# Altium integrated library Maxim Converter Analog to Digital.IntLib: 88 symbols (part 1 of 3)
Pins are listed as number, name and electrical type; pins without a type are passive.

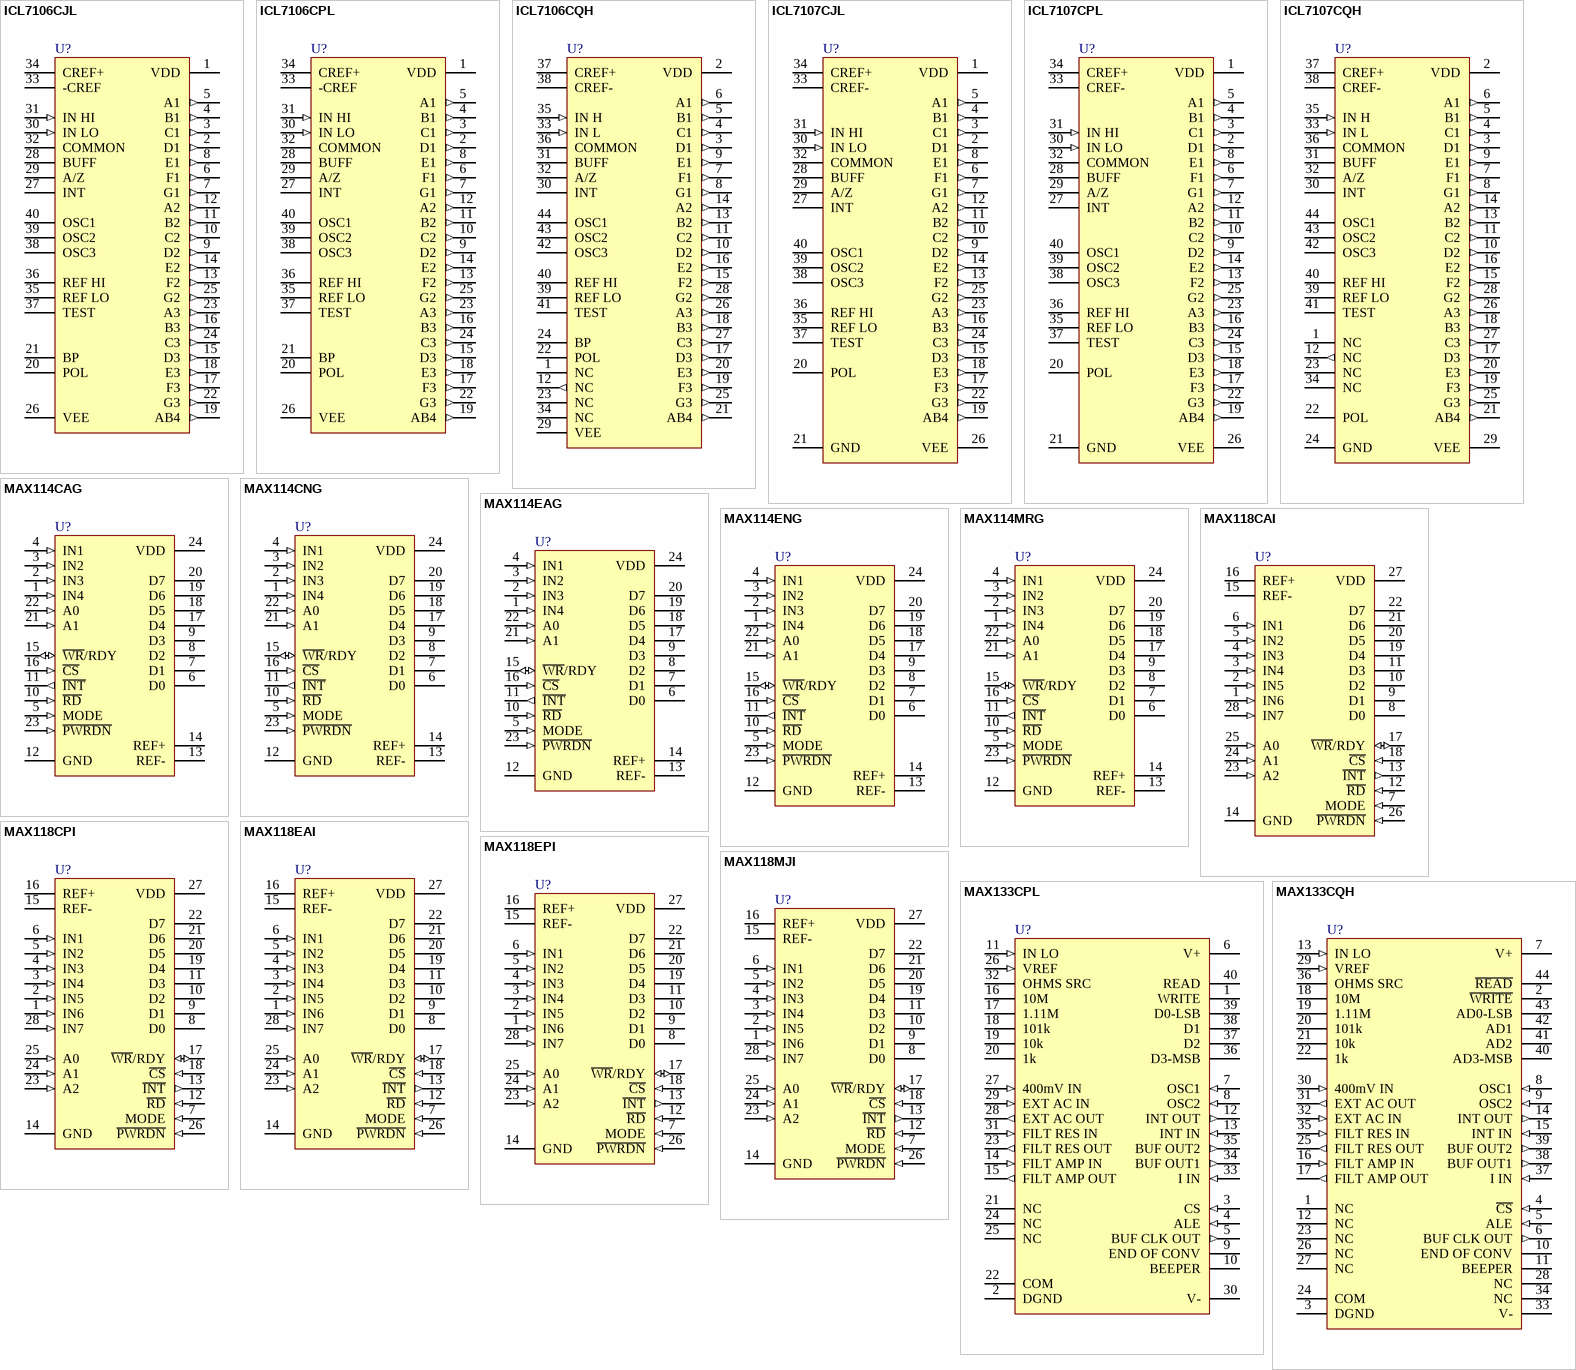
[diagram p0: symbols ICL7106CJL to MAX133CQH]

## ICL7106CJL
designator U?
3½ Digit A/D Converter; Published: 16-Jan-2001; LatestRevisionDate: 29-May-2009; LatestRevisionNote: Component Body Added.; DatasheetVersion: 1987; PackageReference: JL40A; Publisher: Altium Limited; PackageDescription: DIP, 40-Pin, Row Spacing 15.24 mm, Pitch 2.54 mm; Code_JEDEC: MS-011-AC; ComponentLink1Description: Manufacturer Link; ComponentLink1URL: http://www.maxim-ic.com/; ComponentLink2Description: Datasheet; ComponentLink2URL: http://pdfserv.maxim-ic.com/en/ds/ICL7106-ICL7107.pdf
footprint JL40A (DIP, 40-Leads, Row Spacing 15.24mm, Pitch 2.54mm, Body 52.28x14.35mm)
3D model JL40A (DIP, 40-Pin, Row Spacing 15.24 mm, Pitch 2.54 mm)
pins: 1 VDD (power), 2 D1 (out), 3 C1 (out), 4 B1 (out), 5 A1 (out), 6 F1 (out), 7 G1 (out), 8 E1 (out), 9 D2 (out), 10 C2 (out), 11 B2 (out), 12 A2 (out), 13 F2 (out), 14 E2 (out), 15 D3 (out), 16 B3 (out), 17 F3 (out), 18 E3 (out), 19 AB4 (out), 20 POL, 21 BP, 22 G3 (out), 23 A3 (out), 24 C3 (out), 25 G2 (out), 26 VEE (power), 27 INT, 28 BUFF, 29 A/Z, 30 IN LO (in), 31 IN HI (in), 32 COMMON, 33 -CREF, 34 CREF+, 35 REF LO, 36 REF HI, 37 TEST, 38 OSC3, 39 OSC2, 40 OSC1

## ICL7106CPL
designator U?
3½ Digit A/D Converter; Published: 16-Jan-2001; LatestRevisionDate: 29-May-2009; LatestRevisionNote: Component Body Added.; DatasheetVersion: 1987; PackageVersion: RevA, 21-0044; PackageReference: PL40; Publisher: Altium Limited; PackageDescription: DIP, 40-Pin, Row Spacing 15.24 mm, Pitch 2.54 mm; ComponentLink1Description: Manufacturer Link; ComponentLink1URL: http://www.maxim-ic.com/; ComponentLink2Description: Datasheet; ComponentLink2URL: http://pdfserv.maxim-ic.com/en/ds/ICL7106-ICL7107.pdf
footprint PL40 (DIP, 40-Leads, Row Spacing 15.24mm, Pitch 2.54mm, Body 52.08x13.98mm)
3D model PL40 (DIP, 40-Pin, Row Spacing 15.24 mm, Pitch 2.54 mm)
pins: 1 VDD (power), 2 D1 (out), 3 C1 (out), 4 B1 (out), 5 A1 (out), 6 F1 (out), 7 G1 (out), 8 E1 (out), 9 D2 (out), 10 C2 (out), 11 B2 (out), 12 A2 (out), 13 F2 (out), 14 E2 (out), 15 D3 (out), 16 B3 (out), 17 F3 (out), 18 E3 (out), 19 AB4 (out), 20 POL, 21 BP, 22 G3 (out), 23 A3 (out), 24 C3 (out), 25 G2 (out), 26 VEE (power), 27 INT, 28 BUFF, 29 A/Z, 30 IN LO (in), 31 IN HI (in), 32 COMMON, 33 -CREF, 34 CREF+, 35 REF LO, 36 REF HI, 37 TEST, 38 OSC3, 39 OSC2, 40 OSC1

## ICL7106CQH
designator U?
3½ Digit A/D Converter; Published: 16-Jan-2001; LatestRevisionDate: 13-Apr-2006; LatestRevisionNote: IPC-7351 Footprint Added.; DatasheetVersion: 1987; PackageReference: PLCC44; Publisher: Altium Limited; PackageDescription: 44-Pin Leaded Chip Carrier 1.27 mm Pitch; Code_IPC: PLCC-44; ComponentLink1Description: Manufacturer Link; ComponentLink1URL: http://www.maxim-ic.com/; ComponentLink2Description: Datasheet; ComponentLink2URL: http://pdfserv.maxim-ic.com/en/ds/ICL7106-ICL7107.pdf
footprint PLCC44_N (Leaded Chip Carrier, 44-Leads, Body 16.6x16.6mm, Pitch 1.27mm, IPC Medium Density)
footprint PLCC44_L (Leaded Chip Carrier, 44-Leads, Body 16.6x16.6mm, Pitch 1.27mm, IPC High Density)
footprint PLCC44_M (Leaded Chip Carrier, 44-Leads, Body 16.6x16.6mm, Pitch 1.27mm, IPC Low Density)
3D model ICL7106-PLCC44 (44-Pin Leaded Chip Carrier 1.27 mm Pitch)
pins: 1 NC, 2 VDD (power), 3 D1 (out), 4 C1 (out), 5 B1 (out), 6 A1 (out), 7 F1 (out), 8 G1 (out), 9 E1 (out), 10 D2 (out), 11 C2 (out), 12 NC (out), 13 B2 (out), 14 A2 (out), 15 F2 (out), 16 E2 (out), 17 D3 (out), 18 B3 (out), 19 F3 (out), 20 E3 (out), 21 AB4 (out), 22 POL, 23 NC, 24 BP, 25 G3 (out), 26 A3 (out), 27 C3 (out), 28 G2 (out), 29 VEE (power), 30 INT, 31 BUFF, 32 A/Z, 33 IN L (in), 34 NC, 35 IN H (in), 36 COMMON, 37 CREF+, 38 CREF-, 39 REF LO, 40 REF HI, 41 TEST, 42 OSC3, 43 OSC2, 44 OSC1

## ICL7107CJL
designator U?
3½ Digit A/D Converter; Published: 16-Jan-2001; LatestRevisionDate: 29-May-2009; LatestRevisionNote: Component Body Added.; DatasheetVersion: 1987; PackageReference: JL40A; Publisher: Altium Limited; PackageDescription: DIP, 40-Pin, Row Spacing 15.24 mm, Pitch 2.54 mm; Code_JEDEC: MS-011-AC; ComponentLink1Description: Manufacturer Link; ComponentLink1URL: http://www.maxim-ic.com/; ComponentLink2Description: Datasheet; ComponentLink2URL: http://pdfserv.maxim-ic.com/en/ds/ICL7106-ICL7107.pdf
footprint JL40A (DIP, 40-Leads, Row Spacing 15.24mm, Pitch 2.54mm, Body 52.28x14.35mm)
3D model JL40A (DIP, 40-Pin, Row Spacing 15.24 mm, Pitch 2.54 mm)
pins: 1 VDD (power), 2 D1 (out), 3 C1 (out), 4 B1 (out), 5 A1 (out), 6 F1 (out), 7 G1 (out), 8 E1 (out), 9 D2 (out), 10 C2 (out), 11 B2 (out), 12 A2 (out), 13 F2 (out), 14 E2 (out), 15 D3 (out), 16 B3 (out), 17 F3 (out), 18 E3 (out), 19 AB4 (out), 20 POL, 21 GND (power), 22 G3 (out), 23 A3 (out), 24 C3 (out), 25 G2 (out), 26 VEE (power), 27 INT, 28 BUFF, 29 A/Z, 30 IN LO (in), 31 IN HI (in), 32 COMMON, 33 CREF-, 34 CREF+, 35 REF LO, 36 REF HI, 37 TEST, 38 OSC3, 39 OSC2, 40 OSC1

## ICL7107CPL
designator U?
3½ Digit A/D Converter; Published: 16-Jan-2001; LatestRevisionDate: 29-May-2009; LatestRevisionNote: Component Body Added.; DatasheetVersion: 1987; PackageVersion: RevA, 21-0044; PackageReference: PL40; Publisher: Altium Limited; PackageDescription: DIP, 40-Pin, Row Spacing 15.24 mm, Pitch 2.54 mm; ComponentLink1Description: Manufacturer Link; ComponentLink1URL: http://www.maxim-ic.com/; ComponentLink2Description: Datasheet; ComponentLink2URL: http://pdfserv.maxim-ic.com/en/ds/ICL7106-ICL7107.pdf
footprint PL40 (DIP, 40-Leads, Row Spacing 15.24mm, Pitch 2.54mm, Body 52.08x13.98mm)
3D model PL40 (DIP, 40-Pin, Row Spacing 15.24 mm, Pitch 2.54 mm)
pins: 1 VDD (power), 2 D1 (out), 3 C1 (out), 4 B1 (out), 5 A1 (out), 6 F1 (out), 7 G1 (out), 8 E1 (out), 9 D2 (out), 10 C2 (out), 11 B2 (out), 12 A2 (out), 13 F2 (out), 14 E2 (out), 15 D3 (out), 16 B3 (out), 17 F3 (out), 18 E3 (out), 19 AB4 (out), 20 POL, 21 GND (power), 22 G3 (out), 23 A3 (out), 24 C3 (out), 25 G2 (out), 26 VEE (power), 27 INT, 28 BUFF, 29 A/Z, 30 IN LO (in), 31 IN HI (in), 32 COMMON, 33 CREF-, 34 CREF+, 35 REF LO, 36 REF HI, 37 TEST, 38 OSC3, 39 OSC2, 40 OSC1

## ICL7107CQH
designator U?
3½ Digit A/D Converter; Published: 16-Jan-2001; LatestRevisionDate: 13-Apr-2006; LatestRevisionNote: IPC-7351 Footprint Added.; DatasheetVersion: 1987; PackageReference: PLCC44; Publisher: Altium Limited; PackageDescription: 44-Pin Leaded Chip Carrier 1.27 mm Pitch; Code_IPC: PLCC-44; ComponentLink1Description: Manufacturer Link; ComponentLink1URL: http://www.maxim-ic.com/; ComponentLink2Description: Datasheet; ComponentLink2URL: http://pdfserv.maxim-ic.com/en/ds/ICL7106-ICL7107.pdf
footprint PLCC44_N (Leaded Chip Carrier, 44-Leads, Body 16.6x16.6mm, Pitch 1.27mm, IPC Medium Density)
footprint PLCC44_L (Leaded Chip Carrier, 44-Leads, Body 16.6x16.6mm, Pitch 1.27mm, IPC High Density)
footprint PLCC44_M (Leaded Chip Carrier, 44-Leads, Body 16.6x16.6mm, Pitch 1.27mm, IPC Low Density)
3D model ICL7107-PLCC44 (44-Pin Leaded Chip Carrier 1.27 mm Pitch)
pins: 1 NC, 2 VDD (power), 3 D1 (out), 4 C1 (out), 5 B1 (out), 6 A1 (out), 7 F1 (out), 8 G1 (out), 9 E1 (out), 10 D2 (out), 11 C2 (out), 12 NC (out), 13 B2 (out), 14 A2 (out), 15 F2 (out), 16 E2 (out), 17 D3 (out), 18 B3 (out), 19 F3 (out), 20 E3 (out), 21 AB4 (out), 22 POL, 23 NC, 24 GND (power), 25 G3 (out), 26 A3 (out), 27 C3 (out), 28 G2 (out), 29 VEE (power), 30 INT, 31 BUFF, 32 A/Z, 33 IN L (in), 34 NC, 35 IN H (in), 36 COMMON, 37 CREF+, 38 CREF-, 39 REF LO, 40 REF HI, 41 TEST, 42 OSC3, 43 OSC2, 44 OSC1

## MAX114CAG
designator U?
+5V, 1Msps, 4-Channel, 8-Bit ADCs with 1µA Power-Down; Published: 16-Jan-2001; LatestRevisionDate: 29-May-2009; LatestRevisionNote: IPC-7351 Footprint Added.; DatasheetVersion: Aug-1996; PackageVersion: 1996; PackageReference: SSOP24; Publisher: Altium Limited; PackageDescription: 24-Pin Small Outline Package 0.65 mm Pitch; Code_JEDEC: MO-150-AG; Code_IPC: SOP65P780-24; ComponentLink1Description: Manufacturer Link; ComponentLink1URL: http://www.maxim-ic.com/; ComponentLink2Description: Datasheet; ComponentLink2URL: http://pdfserv.maxim-ic.com/en/ds/MAX114-MAX118.pdf
footprint SSOP24_N (SOP, 24-Leads, Body 8.2x5.3mm, Pitch 0.65mm, IPC Medium Density)
footprint SSOP24_L (SOP, 24-Leads, Body 8.2x5.3mm, Pitch 0.65mm, IPC High Density)
footprint SSOP24_M (SOP, 24-Leads, Body 8.2x5.3mm, Pitch 0.65mm, IPC Low Density)
3D model SSOP24 (24-Pin Small Outline Package 0.65 mm Pitch)
pins: 1 IN4 (in), 2 IN3 (in), 3 IN2 (in), 4 IN1 (in), 5 MODE (in), 6 D0 (hiz), 7 D1 (hiz), 8 D2 (hiz), 9 D3 (hiz), 10 ~{RD} (in), 11 ~{INT} (out), 12 GND (power), 13 REF-, 14 REF+, 15 ~{WR}/RDY (io), 16 ~{CS} (in), 17 D4 (hiz), 18 D5 (hiz), 19 D6 (hiz), 20 D7 (hiz), 21 A1 (in), 22 A0 (in), 23 ~{PWRDN} (in), 24 VDD (power)

## MAX114CNG
designator U?
+5V, 1Msps, 4-Channel, 8-Bit ADCs with 1µA Power-Down; Published: 16-Jan-2001; LatestRevisionDate: 29-May-2009; LatestRevisionNote: Component Body Added.; DatasheetVersion: Aug-1996; PackageVersion: Aug-2000; PackageReference: NG24; Publisher: Altium Limited; PackageDescription: DIP, 24-Pin, Row Spacing 7.62 mm, Pitch 2.54 mm; Code_JEDEC: MS-001-AF; ComponentLink1Description: Manufacturer Link; ComponentLink1URL: http://www.maxim-ic.com/; ComponentLink2Description: Datasheet; ComponentLink2URL: http://pdfserv.maxim-ic.com/en/ds/MAX114-MAX118.pdf
footprint NG24 (DIP, 24-Leads, Row Spacing 7.62mm, Pitch 2.54mm, Body 30.55x7.24mm)
3D model NG24 (DIP, 24-Pin, Row Spacing 7.62 mm, Pitch 2.54 mm)
pins: 1 IN4 (in), 2 IN3 (in), 3 IN2 (in), 4 IN1 (in), 5 MODE (in), 6 D0 (hiz), 7 D1 (hiz), 8 D2 (hiz), 9 D3 (hiz), 10 ~{RD} (in), 11 ~{INT} (out), 12 GND (power), 13 REF-, 14 REF+, 15 ~{WR}/RDY (io), 16 ~{CS} (in), 17 D4 (hiz), 18 D5 (hiz), 19 D6 (hiz), 20 D7 (hiz), 21 A1 (in), 22 A0 (in), 23 ~{PWRDN} (in), 24 VDD (power)

## MAX114EAG
designator U?
+5V, 1Msps, 4-Channel, 8-Bit ADCs with 1µA Power-Down; Published: 16-Jan-2001; LatestRevisionDate: 29-May-2009; LatestRevisionNote: IPC-7351 Footprint Added.; DatasheetVersion: Aug-1996; PackageVersion: 1996; PackageReference: SSOP24; Publisher: Altium Limited; PackageDescription: 24-Pin Small Outline Package 0.65 mm Pitch; Code_JEDEC: MO-150-AG; Code_IPC: SOP65P780-24; ComponentLink1Description: Manufacturer Link; ComponentLink1URL: http://www.maxim-ic.com/; ComponentLink2Description: Datasheet; ComponentLink2URL: http://pdfserv.maxim-ic.com/en/ds/MAX114-MAX118.pdf
footprint SSOP24_N (SOP, 24-Leads, Body 8.2x5.3mm, Pitch 0.65mm, IPC Medium Density)
footprint SSOP24_L (SOP, 24-Leads, Body 8.2x5.3mm, Pitch 0.65mm, IPC High Density)
footprint SSOP24_M (SOP, 24-Leads, Body 8.2x5.3mm, Pitch 0.65mm, IPC Low Density)
3D model SSOP24 (24-Pin Small Outline Package 0.65 mm Pitch)
pins: 1 IN4 (in), 2 IN3 (in), 3 IN2 (in), 4 IN1 (in), 5 MODE (in), 6 D0 (hiz), 7 D1 (hiz), 8 D2 (hiz), 9 D3 (hiz), 10 ~{RD} (in), 11 ~{INT} (out), 12 GND (power), 13 REF-, 14 REF+, 15 ~{WR}/RDY (io), 16 ~{CS} (in), 17 D4 (hiz), 18 D5 (hiz), 19 D6 (hiz), 20 D7 (hiz), 21 A1 (in), 22 A0 (in), 23 ~{PWRDN} (in), 24 VDD (power)

## MAX114ENG
designator U?
+5V, 1Msps, 4-Channel, 8-Bit ADCs with 1µA Power-Down; Published: 16-Jan-2001; LatestRevisionDate: 29-May-2009; LatestRevisionNote: Component Body Added.; DatasheetVersion: Aug-1996; PackageVersion: Aug-2000; PackageReference: NG24; Publisher: Altium Limited; PackageDescription: DIP, 24-Pin, Row Spacing 7.62 mm, Pitch 2.54 mm; Code_JEDEC: MS-001-AF; ComponentLink1Description: Manufacturer Link; ComponentLink1URL: http://www.maxim-ic.com/; ComponentLink2Description: Datasheet; ComponentLink2URL: http://pdfserv.maxim-ic.com/en/ds/MAX114-MAX118.pdf
footprint NG24 (DIP, 24-Leads, Row Spacing 7.62mm, Pitch 2.54mm, Body 30.55x7.24mm)
3D model NG24 (DIP, 24-Pin, Row Spacing 7.62 mm, Pitch 2.54 mm)
pins: 1 IN4 (in), 2 IN3 (in), 3 IN2 (in), 4 IN1 (in), 5 MODE (in), 6 D0 (hiz), 7 D1 (hiz), 8 D2 (hiz), 9 D3 (hiz), 10 ~{RD} (in), 11 ~{INT} (out), 12 GND (power), 13 REF-, 14 REF+, 15 ~{WR}/RDY (io), 16 ~{CS} (in), 17 D4 (hiz), 18 D5 (hiz), 19 D6 (hiz), 20 D7 (hiz), 21 A1 (in), 22 A0 (in), 23 ~{PWRDN} (in), 24 VDD (power)

## MAX114MRG
designator U?
+5V, 1Msps, 4-Channel, 8-Bit ADCs with 1µA Power-Down; Published: 16-Jan-2001; LatestRevisionDate: 29-May-2009; LatestRevisionNote: Component Body Added.; DatasheetVersion: Aug-1996; PackageVersion: 1996; PackageReference: RG24; Publisher: Altium Limited; PackageDescription: DIP, 24-Pin, Row Spacing 7.62 mm, Pitch 2.54 mm; Code_JEDEC: MS-001-AF; ComponentLink1Description: Manufacturer Link; ComponentLink1URL: http://www.maxim-ic.com/; ComponentLink2Description: Datasheet; ComponentLink2URL: http://pdfserv.maxim-ic.com/en/ds/MAX114-MAX118.pdf
footprint RG24 (DIP, 24-Leads, Row Spacing 7.62mm, Pitch 2.54mm, Body 31.88x6.73mm)
3D model NG24 (DIP, 24-Pin, Row Spacing 7.62 mm, Pitch 2.54 mm)
pins: 1 IN4 (in), 2 IN3 (in), 3 IN2 (in), 4 IN1 (in), 5 MODE (in), 6 D0 (hiz), 7 D1 (hiz), 8 D2 (hiz), 9 D3 (hiz), 10 ~{RD} (in), 11 ~{INT} (out), 12 GND (power), 13 REF-, 14 REF+, 15 ~{WR}/RDY (io), 16 ~{CS} (in), 17 D4 (hiz), 18 D5 (hiz), 19 D6 (hiz), 20 D7 (hiz), 21 A1 (in), 22 A0 (in), 23 ~{PWRDN} (in), 24 VDD (power)

## MAX118CAI
designator U?
+5V, 1Msps, 8-Channel, 8-Bit ADCs with 1µA Power-Down; Published: 16-Jan-2001; LatestRevisionDate: 29-May-2009; LatestRevisionNote: IPC-7351 Footprint Added.; DatasheetVersion: Aug-1996; PackageVersion: Jul-2000; PackageReference: SSOP28; Publisher: Altium Limited; PackageDescription: 28-Pin Small Outline Package 0.65 mm Pitch; Code_JEDEC: MO-150-AH; Code_IPC: SOP65P780-28; ComponentLink1Description: Manufacturer Link; ComponentLink1URL: http://www.maxim-ic.com/; ComponentLink2Description: Datasheet; ComponentLink2URL: http://pdfserv.maxim-ic.com/en/ds/MAX114-MAX118.pdf
footprint SSOP28_N (SOP, 28-Leads, Body 10.2x5.3mm, Pitch 0.65mm, IPC Medium Density)
footprint SSOP28_L (SOP, 28-Leads, Body 10.2x5.3mm, Pitch 0.65mm, IPC High Density)
footprint SSOP28_M (SOP, 28-Leads, Body 10.2x5.3mm, Pitch 0.65mm, IPC Low Density)
3D model SSOP28 (28-Pin Small Outline Package 0.65 mm Pitch)
pins: 1 IN6 (in), 2 IN5 (in), 3 IN4 (in), 4 IN3 (in), 5 IN2 (in), 6 IN1 (in), 7 MODE (in), 8 D0 (hiz), 9 D1 (hiz), 10 D2 (hiz), 11 D3 (hiz), 12 ~{RD} (in), 13 ~{INT} (out), 14 GND (power), 15 REF-, 16 REF+, 17 ~{WR}/RDY (io), 18 ~{CS} (in), 19 D4 (hiz), 20 D5 (hiz), 21 D6 (hiz), 22 D7 (hiz), 23 A2 (in), 24 A1 (in), 25 A0 (in), 26 ~{PWRDN} (in), 27 VDD (power), 28 IN7 (in)

## MAX118CPI
designator U?
+5V, 1Msps, 8-Channel, 8-Bit ADCs with 1µA Power-Down; Published: 16-Jan-2001; LatestRevisionDate: 29-May-2009; LatestRevisionNote: Component Body Added.; DatasheetVersion: Aug-1996; PackageReference: PI28; Publisher: Altium Limited; PackageDescription: DIP, 28-Pin, Row Spacing 15.24 mm, Pitch 2.54 mm; ComponentLink1Description: Manufacturer Link; ComponentLink1URL: http://www.maxim-ic.com/; ComponentLink2Description: Datasheet; ComponentLink2URL: http://pdfserv.maxim-ic.com/en/ds/MAX114-MAX118.pdf
footprint PI28 (DIP, 28-Leads, Row Spacing 15.24mm, Pitch 2.54mm, Body 36.83x13.98mm)
3D model JI28 (DIP, 28-Pin, Row Spacing 15.24 mm, Pitch 2.54 mm)
pins: 1 IN6 (in), 2 IN5 (in), 3 IN4 (in), 4 IN3 (in), 5 IN2 (in), 6 IN1 (in), 7 MODE (in), 8 D0 (hiz), 9 D1 (hiz), 10 D2 (hiz), 11 D3 (hiz), 12 ~{RD} (in), 13 ~{INT} (out), 14 GND (power), 15 REF-, 16 REF+, 17 ~{WR}/RDY (io), 18 ~{CS} (in), 19 D4 (hiz), 20 D5 (hiz), 21 D6 (hiz), 22 D7 (hiz), 23 A2 (in), 24 A1 (in), 25 A0 (in), 26 ~{PWRDN} (in), 27 VDD (power), 28 IN7 (in)

## MAX118EAI
designator U?
+5V, 1Msps, 8-Channel, 8-Bit ADCs with 1µA Power-Down; Published: 16-Jan-2001; LatestRevisionDate: 29-May-2009; LatestRevisionNote: IPC-7351 Footprint Added.; DatasheetVersion: Aug-1996; PackageVersion: Jul-2000; PackageReference: SSOP28; Publisher: Altium Limited; PackageDescription: 28-Pin Small Outline Package 0.65 mm Pitch; Code_JEDEC: MO-150-AH; Code_IPC: SOP65P780-28; ComponentLink1Description: Manufacturer Link; ComponentLink1URL: http://www.maxim-ic.com/; ComponentLink2Description: Datasheet; ComponentLink2URL: http://pdfserv.maxim-ic.com/en/ds/MAX114-MAX118.pdf
footprint SSOP28_N (SOP, 28-Leads, Body 10.2x5.3mm, Pitch 0.65mm, IPC Medium Density)
footprint SSOP28_L (SOP, 28-Leads, Body 10.2x5.3mm, Pitch 0.65mm, IPC High Density)
footprint SSOP28_M (SOP, 28-Leads, Body 10.2x5.3mm, Pitch 0.65mm, IPC Low Density)
3D model SSOP28 (28-Pin Small Outline Package 0.65 mm Pitch)
pins: 1 IN6 (in), 2 IN5 (in), 3 IN4 (in), 4 IN3 (in), 5 IN2 (in), 6 IN1 (in), 7 MODE (in), 8 D0 (hiz), 9 D1 (hiz), 10 D2 (hiz), 11 D3 (hiz), 12 ~{RD} (in), 13 ~{INT} (out), 14 GND (power), 15 REF-, 16 REF+, 17 ~{WR}/RDY (io), 18 ~{CS} (in), 19 D4 (hiz), 20 D5 (hiz), 21 D6 (hiz), 22 D7 (hiz), 23 A2 (in), 24 A1 (in), 25 A0 (in), 26 ~{PWRDN} (in), 27 VDD (power), 28 IN7 (in)

## MAX118EPI
designator U?
+5V, 1Msps, 8-Channel, 8-Bit ADCs with 1µA Power-Down; Published: 16-Jan-2001; LatestRevisionDate: 29-May-2009; LatestRevisionNote: Component Body Added.; DatasheetVersion: Aug-1996; PackageReference: PI28; Publisher: Altium Limited; PackageDescription: DIP, 28-Pin, Row Spacing 15.24 mm, Pitch 2.54 mm; ComponentLink1Description: Manufacturer Link; ComponentLink1URL: http://www.maxim-ic.com/; ComponentLink2Description: Datasheet; ComponentLink2URL: http://pdfserv.maxim-ic.com/en/ds/MAX114-MAX118.pdf
footprint PI28 (DIP, 28-Leads, Row Spacing 15.24mm, Pitch 2.54mm, Body 36.83x13.98mm)
3D model JI28 (DIP, 28-Pin, Row Spacing 15.24 mm, Pitch 2.54 mm)
pins: 1 IN6 (in), 2 IN5 (in), 3 IN4 (in), 4 IN3 (in), 5 IN2 (in), 6 IN1 (in), 7 MODE (in), 8 D0 (hiz), 9 D1 (hiz), 10 D2 (hiz), 11 D3 (hiz), 12 ~{RD} (in), 13 ~{INT} (out), 14 GND (power), 15 REF-, 16 REF+, 17 ~{WR}/RDY (io), 18 ~{CS} (in), 19 D4 (hiz), 20 D5 (hiz), 21 D6 (hiz), 22 D7 (hiz), 23 A2 (in), 24 A1 (in), 25 A0 (in), 26 ~{PWRDN} (in), 27 VDD (power), 28 IN7 (in)

## MAX118MJI
designator U?
+5V, 1Msps, 8-Channel, 8-Bit ADCs with 1µA Power-Down; Published: 16-Jan-2001; LatestRevisionDate: 29-May-2009; LatestRevisionNote: Component Body Added.; DatasheetVersion: Aug-1996; PackageVersion: 21-0046 A; PackageReference: JI28; Publisher: Altium Limited; PackageDescription: DIP, 28-Pin, Row Spacing 15.24 mm, Pitch 2.54 mm; ComponentLink1Description: Manufacturer Link; ComponentLink1URL: http://www.maxim-ic.com/; ComponentLink2Description: Datasheet; ComponentLink2URL: http://pdfserv.maxim-ic.com/en/ds/MAX114-MAX118.pdf
footprint JI28 (DIP, 28-Leads, Row Spacing 15.24mm, Pitch 2.54mm, Body 37.15x14.23mm)
3D model JI28 (DIP, 28-Pin, Row Spacing 15.24 mm, Pitch 2.54 mm)
pins: 1 IN6 (in), 2 IN5 (in), 3 IN4 (in), 4 IN3 (in), 5 IN2 (in), 6 IN1 (in), 7 MODE (in), 8 D0 (hiz), 9 D1 (hiz), 10 D2 (hiz), 11 D3 (hiz), 12 ~{RD} (in), 13 ~{INT} (out), 14 GND (power), 15 REF-, 16 REF+, 17 ~{WR}/RDY (io), 18 ~{CS} (in), 19 D4 (hiz), 20 D5 (hiz), 21 D6 (hiz), 22 D7 (hiz), 23 A2 (in), 24 A1 (in), 25 A0 (in), 26 ~{PWRDN} (in), 27 VDD (power), 28 IN7 (in)

## MAX133CPL
designator U?
3¾ Digit DMM Circuit; Published: 16-Jan-2001; LatestRevisionDate: 29-May-2009; LatestRevisionNote: Component Body Added.; DatasheetVersion: 1995; PackageVersion: RevA, 21-0044; PackageReference: PL40; Publisher: Altium Limited; PackageDescription: DIP, 40-Pin, Row Spacing 15.24 mm, Pitch 2.54 mm; ComponentLink1Description: Manufacturer Link; ComponentLink1URL: http://www.maxim-ic.com/; ComponentLink2Description: Datasheet; ComponentLink2URL: http://pdfserv.maxim-ic.com/en/ds/MAX133-MAX134.pdf
footprint PL40 (DIP, 40-Leads, Row Spacing 15.24mm, Pitch 2.54mm, Body 52.08x13.98mm)
3D model PL40 (DIP, 40-Pin, Row Spacing 15.24 mm, Pitch 2.54 mm)
pins: 1 WRITE, 2 DGND (power), 3 CS (in), 4 ALE (in), 5 BUF CLK OUT (out), 6 V+ (power), 7 OSC1 (in), 8 OSC2 (in), 9 END OF CONV, 10 BEEPER, 11 IN LO (in), 12 INT OUT (out), 13 INT IN (in), 14 FILT AMP IN (in), 15 FILT AMP OUT (out), 16 10M, 17 1.11M, 18 101k, 19 10k, 20 1k, 21 NC, 22 COM (power), 23 FILT RES OUT (out), 24 NC, 25 NC, 26 VREF (in), 27 400mV IN (in), 28 EXT AC OUT (out), 29 EXT AC IN (in), 30 V- (power), 31 FILT RES IN (in), 32 OHMS SRC, 33 I IN (in), 34 BUF OUT1 (out), 35 BUF OUT2 (out), 36 D3-MSB, 37 D2, 38 D1, 39 D0-LSB, 40 READ

## MAX133CQH
designator U?
3¾ Digit DMM Circuit; Published: 16-Jan-2001; LatestRevisionDate: 13-Apr-2006; LatestRevisionNote: IPC-7351 Footprint Added.; DatasheetVersion: 1995; PackageReference: PLCC44; Publisher: Altium Limited; PackageDescription: 44-Pin Leaded Chip Carrier 1.27 mm Pitch; Code_IPC: PLCC-44; ComponentLink1Description: Manufacturer Link; ComponentLink1URL: http://www.maxim-ic.com/; ComponentLink2Description: Datasheet; ComponentLink2URL: http://pdfserv.maxim-ic.com/en/ds/MAX133-MAX134.pdf
footprint PLCC44_N (Leaded Chip Carrier, 44-Leads, Body 16.6x16.6mm, Pitch 1.27mm, IPC Medium Density)
footprint PLCC44_L (Leaded Chip Carrier, 44-Leads, Body 16.6x16.6mm, Pitch 1.27mm, IPC High Density)
footprint PLCC44_M (Leaded Chip Carrier, 44-Leads, Body 16.6x16.6mm, Pitch 1.27mm, IPC Low Density)
3D model MAX133-PLCC44 (44-Pin Leaded Chip Carrier 1.27 mm Pitch)
pins: 1 NC, 2 ~{WRITE}, 3 DGND (power), 4 ~{CS} (in), 5 ALE (in), 6 BUF CLK OUT (out), 7 V+ (power), 8 OSC1 (in), 9 OSC2 (in), 10 END OF CONV, 11 BEEPER, 12 NC, 13 IN LO (in), 14 INT OUT (out), 15 INT IN (in), 16 FILT AMP IN (in), 17 FILT AMP OUT (out), 18 10M, 19 1.11M, 20 101k, 21 10k, 22 1k, 23 NC, 24 COM (power), 25 FILT RES OUT (out), 26 NC, 27 NC, 28 NC, 29 VREF (in), 30 400mV IN (in), 31 EXT AC OUT (out), 32 EXT AC IN (in), 33 V- (power), 34 NC, 35 FILT RES IN (in), 36 OHMS SRC, 37 I IN (in), 38 BUF OUT1 (out), 39 BUF OUT2 (out), 40 AD3-MSB, 41 AD2, 42 AD1, 43 AD0-LSB, 44 ~{READ}

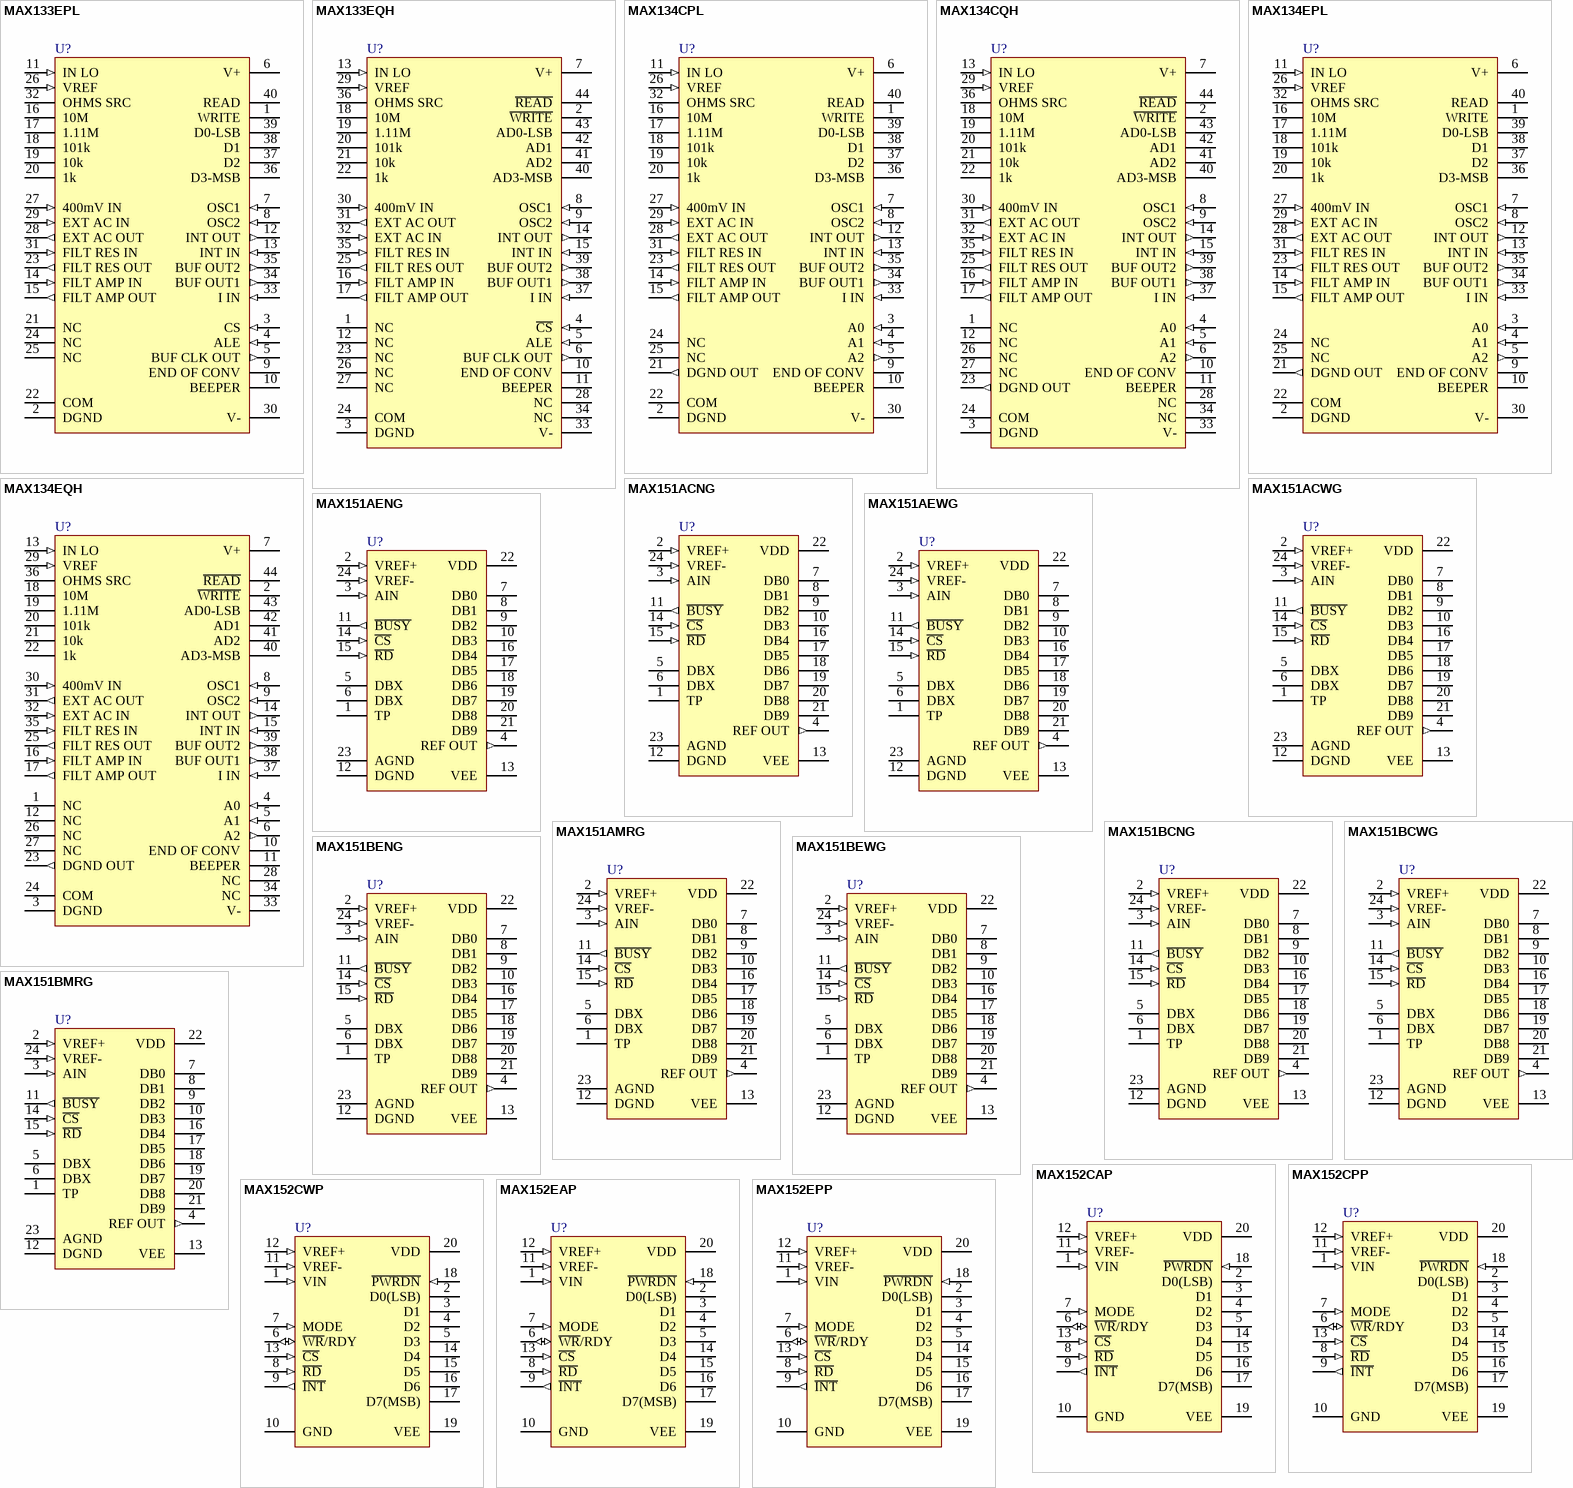
[diagram p1: symbols MAX133EPL to MAX152EPP]

## MAX133EPL
designator U?
3¾ Digit DMM Circuit; Published: 16-Jan-2001; LatestRevisionDate: 29-May-2009; LatestRevisionNote: Component Body Added.; DatasheetVersion: 1995; PackageVersion: RevA, 21-0044; PackageReference: PL40; Publisher: Altium Limited; PackageDescription: DIP, 40-Pin, Row Spacing 15.24 mm, Pitch 2.54 mm; ComponentLink1Description: Manufacturer Link; ComponentLink1URL: http://www.maxim-ic.com/; ComponentLink2Description: Datasheet; ComponentLink2URL: http://pdfserv.maxim-ic.com/en/ds/MAX133-MAX134.pdf
footprint PL40 (DIP, 40-Leads, Row Spacing 15.24mm, Pitch 2.54mm, Body 52.08x13.98mm)
3D model PL40 (DIP, 40-Pin, Row Spacing 15.24 mm, Pitch 2.54 mm)
pins: 1 WRITE, 2 DGND (power), 3 CS (in), 4 ALE (in), 5 BUF CLK OUT (out), 6 V+ (power), 7 OSC1 (in), 8 OSC2 (in), 9 END OF CONV, 10 BEEPER, 11 IN LO (in), 12 INT OUT (out), 13 INT IN (in), 14 FILT AMP IN (in), 15 FILT AMP OUT (out), 16 10M, 17 1.11M, 18 101k, 19 10k, 20 1k, 21 NC, 22 COM (power), 23 FILT RES OUT (out), 24 NC, 25 NC, 26 VREF (in), 27 400mV IN (in), 28 EXT AC OUT (out), 29 EXT AC IN (in), 30 V- (power), 31 FILT RES IN (in), 32 OHMS SRC, 33 I IN (in), 34 BUF OUT1 (out), 35 BUF OUT2 (out), 36 D3-MSB, 37 D2, 38 D1, 39 D0-LSB, 40 READ

## MAX133EQH
designator U?
3¾ Digit DMM Circuit; Published: 16-Jan-2001; LatestRevisionDate: 13-Apr-2006; LatestRevisionNote: IPC-7351 Footprint Added.; DatasheetVersion: 1995; PackageReference: PLCC44; Publisher: Altium Limited; PackageDescription: 44-Pin Leaded Chip Carrier 1.27 mm Pitch; Code_IPC: PLCC-44; ComponentLink1Description: Manufacturer Link; ComponentLink1URL: http://www.maxim-ic.com/; ComponentLink2Description: Datasheet; ComponentLink2URL: http://pdfserv.maxim-ic.com/en/ds/MAX133-MAX134.pdf
footprint PLCC44_N (Leaded Chip Carrier, 44-Leads, Body 16.6x16.6mm, Pitch 1.27mm, IPC Medium Density)
footprint PLCC44_L (Leaded Chip Carrier, 44-Leads, Body 16.6x16.6mm, Pitch 1.27mm, IPC High Density)
footprint PLCC44_M (Leaded Chip Carrier, 44-Leads, Body 16.6x16.6mm, Pitch 1.27mm, IPC Low Density)
3D model MAX133-PLCC44 (44-Pin Leaded Chip Carrier 1.27 mm Pitch)
pins: 1 NC, 2 ~{WRITE}, 3 DGND (power), 4 ~{CS} (in), 5 ALE (in), 6 BUF CLK OUT (out), 7 V+ (power), 8 OSC1 (in), 9 OSC2 (in), 10 END OF CONV, 11 BEEPER, 12 NC, 13 IN LO (in), 14 INT OUT (out), 15 INT IN (in), 16 FILT AMP IN (in), 17 FILT AMP OUT (out), 18 10M, 19 1.11M, 20 101k, 21 10k, 22 1k, 23 NC, 24 COM (power), 25 FILT RES OUT (out), 26 NC, 27 NC, 28 NC, 29 VREF (in), 30 400mV IN (in), 31 EXT AC OUT (out), 32 EXT AC IN (in), 33 V- (power), 34 NC, 35 FILT RES IN (in), 36 OHMS SRC, 37 I IN (in), 38 BUF OUT1 (out), 39 BUF OUT2 (out), 40 AD3-MSB, 41 AD2, 42 AD1, 43 AD0-LSB, 44 ~{READ}

## MAX134CPL
designator U?
3¾ Digit DMM Circuit; Published: 16-Jan-2001; LatestRevisionDate: 29-May-2009; LatestRevisionNote: Component Body Added.; DatasheetVersion: 1995; PackageVersion: RevA, 21-0044; PackageReference: PL40; Publisher: Altium Limited; PackageDescription: DIP, 40-Pin, Row Spacing 15.24 mm, Pitch 2.54 mm; ComponentLink1Description: Manufacturer Link; ComponentLink1URL: http://www.maxim-ic.com/; ComponentLink2Description: Datasheet; ComponentLink2URL: http://pdfserv.maxim-ic.com/en/ds/MAX133-MAX134.pdf
footprint PL40 (DIP, 40-Leads, Row Spacing 15.24mm, Pitch 2.54mm, Body 52.08x13.98mm)
3D model PL40 (DIP, 40-Pin, Row Spacing 15.24 mm, Pitch 2.54 mm)
pins: 1 WRITE, 2 DGND (power), 3 A0 (in), 4 A1 (in), 5 A2 (out), 6 V+ (power), 7 OSC1 (in), 8 OSC2 (in), 9 END OF CONV, 10 BEEPER, 11 IN LO (in), 12 INT OUT (out), 13 INT IN (in), 14 FILT AMP IN (in), 15 FILT AMP OUT (out), 16 10M, 17 1.11M, 18 101k, 19 10k, 20 1k, 21 DGND OUT (out), 22 COM (power), 23 FILT RES OUT (out), 24 NC, 25 NC, 26 VREF (in), 27 400mV IN (in), 28 EXT AC OUT (out), 29 EXT AC IN (in), 30 V- (power), 31 FILT RES IN (in), 32 OHMS SRC, 33 I IN (in), 34 BUF OUT1 (out), 35 BUF OUT2 (out), 36 D3-MSB, 37 D2, 38 D1, 39 D0-LSB, 40 READ

## MAX134CQH
designator U?
3¾ Digit DMM Circuit; Published: 16-Jan-2001; LatestRevisionDate: 13-Apr-2006; LatestRevisionNote: IPC-7351 Footprint Added.; DatasheetVersion: 1995; PackageReference: PLCC44; Publisher: Altium Limited; PackageDescription: 44-Pin Leaded Chip Carrier 1.27 mm Pitch; Code_IPC: PLCC-44; ComponentLink1Description: Manufacturer Link; ComponentLink1URL: http://www.maxim-ic.com/; ComponentLink2Description: Datasheet; ComponentLink2URL: http://pdfserv.maxim-ic.com/en/ds/MAX133-MAX134.pdf
footprint PLCC44_N (Leaded Chip Carrier, 44-Leads, Body 16.6x16.6mm, Pitch 1.27mm, IPC Medium Density)
footprint PLCC44_L (Leaded Chip Carrier, 44-Leads, Body 16.6x16.6mm, Pitch 1.27mm, IPC High Density)
footprint PLCC44_M (Leaded Chip Carrier, 44-Leads, Body 16.6x16.6mm, Pitch 1.27mm, IPC Low Density)
3D model MAX134-PLCC44 (44-Pin Leaded Chip Carrier 1.27 mm Pitch)
pins: 1 NC, 2 ~{WRITE}, 3 DGND (power), 4 A0 (in), 5 A1 (in), 6 A2 (out), 7 V+ (power), 8 OSC1 (in), 9 OSC2 (in), 10 END OF CONV, 11 BEEPER, 12 NC, 13 IN LO (in), 14 INT OUT (out), 15 INT IN (in), 16 FILT AMP IN (in), 17 FILT AMP OUT (out), 18 10M, 19 1.11M, 20 101k, 21 10k, 22 1k, 23 DGND OUT (out), 24 COM (power), 25 FILT RES OUT (out), 26 NC, 27 NC, 28 NC, 29 VREF (in), 30 400mV IN (in), 31 EXT AC OUT (out), 32 EXT AC IN (in), 33 V- (power), 34 NC, 35 FILT RES IN (in), 36 OHMS SRC, 37 I IN (in), 38 BUF OUT1 (out), 39 BUF OUT2 (out), 40 AD3-MSB, 41 AD2, 42 AD1, 43 AD0-LSB, 44 ~{READ}

## MAX134EPL
designator U?
3¾ Digit DMM Circuit; Published: 16-Jan-2001; LatestRevisionDate: 29-May-2009; LatestRevisionNote: Component Body Added.; DatasheetVersion: 1995; PackageVersion: RevA, 21-0044; PackageReference: PL40; Publisher: Altium Limited; PackageDescription: DIP, 40-Pin, Row Spacing 15.24 mm, Pitch 2.54 mm; ComponentLink1Description: Manufacturer Link; ComponentLink1URL: http://www.maxim-ic.com/; ComponentLink2Description: Datasheet; ComponentLink2URL: http://pdfserv.maxim-ic.com/en/ds/MAX133-MAX134.pdf
footprint PL40 (DIP, 40-Leads, Row Spacing 15.24mm, Pitch 2.54mm, Body 52.08x13.98mm)
3D model PL40 (DIP, 40-Pin, Row Spacing 15.24 mm, Pitch 2.54 mm)
pins: 1 WRITE, 2 DGND (power), 3 A0 (in), 4 A1 (in), 5 A2 (out), 6 V+ (power), 7 OSC1 (in), 8 OSC2 (in), 9 END OF CONV, 10 BEEPER, 11 IN LO (in), 12 INT OUT (out), 13 INT IN (in), 14 FILT AMP IN (in), 15 FILT AMP OUT (out), 16 10M, 17 1.11M, 18 101k, 19 10k, 20 1k, 21 DGND OUT (out), 22 COM (power), 23 FILT RES OUT (out), 24 NC, 25 NC, 26 VREF (in), 27 400mV IN (in), 28 EXT AC OUT (out), 29 EXT AC IN (in), 30 V- (power), 31 FILT RES IN (in), 32 OHMS SRC, 33 I IN (in), 34 BUF OUT1 (out), 35 BUF OUT2 (out), 36 D3-MSB, 37 D2, 38 D1, 39 D0-LSB, 40 READ

## MAX134EQH
designator U?
3¾ Digit DMM Circuit; Published: 16-Jan-2001; LatestRevisionDate: 13-Apr-2006; LatestRevisionNote: IPC-7351 Footprint Added.; DatasheetVersion: 1995; PackageReference: PLCC44; Publisher: Altium Limited; PackageDescription: 44-Pin Leaded Chip Carrier 1.27 mm Pitch; Code_IPC: PLCC-44; ComponentLink1Description: Manufacturer Link; ComponentLink1URL: http://www.maxim-ic.com/; ComponentLink2Description: Datasheet; ComponentLink2URL: http://pdfserv.maxim-ic.com/en/ds/MAX133-MAX134.pdf
footprint PLCC44_N (Leaded Chip Carrier, 44-Leads, Body 16.6x16.6mm, Pitch 1.27mm, IPC Medium Density)
footprint PLCC44_L (Leaded Chip Carrier, 44-Leads, Body 16.6x16.6mm, Pitch 1.27mm, IPC High Density)
footprint PLCC44_M (Leaded Chip Carrier, 44-Leads, Body 16.6x16.6mm, Pitch 1.27mm, IPC Low Density)
3D model MAX134-PLCC44 (44-Pin Leaded Chip Carrier 1.27 mm Pitch)
pins: 1 NC, 2 ~{WRITE}, 3 DGND (power), 4 A0 (in), 5 A1 (in), 6 A2 (out), 7 V+ (power), 8 OSC1 (in), 9 OSC2 (in), 10 END OF CONV, 11 BEEPER, 12 NC, 13 IN LO (in), 14 INT OUT (out), 15 INT IN (in), 16 FILT AMP IN (in), 17 FILT AMP OUT (out), 18 10M, 19 1.11M, 20 101k, 21 10k, 22 1k, 23 DGND OUT (out), 24 COM (power), 25 FILT RES OUT (out), 26 NC, 27 NC, 28 NC, 29 VREF (in), 30 400mV IN (in), 31 EXT AC OUT (out), 32 EXT AC IN (in), 33 V- (power), 34 NC, 35 FILT RES IN (in), 36 OHMS SRC, 37 I IN (in), 38 BUF OUT1 (out), 39 BUF OUT2 (out), 40 AD3-MSB, 41 AD2, 42 AD1, 43 AD0-LSB, 44 ~{READ}

## MAX151ACNG
designator U?
300kHz 10-Bit ADC Converter with Reference and T/H; Published: 16-Jan-2001; LatestRevisionDate: 29-May-2009; LatestRevisionNote: Component Body Added.; DatasheetVersion: Jun-1990; PackageVersion: 1997; PackageReference: NG24A; Publisher: Altium Limited; PackageDescription: DIP, 24-Pin, Row Spacing 7.62 mm, Pitch 2.54 mm; Code_JEDEC: MS-001-AF; ComponentLink1Description: Manufacturer Link; ComponentLink1URL: http://www.maxim-ic.com/; ComponentLink2Description: Datasheet; ComponentLink2URL: http://pdfserv.maxim-ic.com/en/ds/MAX151.pdf
footprint NG24A (DIP, 24-Leads, Row Spacing 7.62mm, Pitch 2.54mm, Body 30.55x6.99mm)
3D model NG24 (DIP, 24-Pin, Row Spacing 7.62 mm, Pitch 2.54 mm)
pins: 1 TP, 2 VREF+ (in), 3 AIN (in), 4 REF OUT (out), 5 DBX, 6 DBX, 7 DB0 (hiz), 8 DB1 (hiz), 9 DB2 (hiz), 10 DB3 (hiz), 11 ~{BUSY} (out), 12 DGND (power), 13 VEE (power), 14 ~{CS} (in), 15 ~{RD} (in), 16 DB4 (hiz), 17 DB5 (hiz), 18 DB6 (hiz), 19 DB7 (hiz), 20 DB8 (hiz), 21 DB9 (hiz), 22 VDD (power), 23 AGND (power), 24 VREF- (in)

## MAX151ACWG
designator U?
300kHz 10-Bit ADC Converter with Reference and T/H; Published: 16-Jan-2001; LatestRevisionDate: 13-Apr-2006; LatestRevisionNote: IPC-7351 Footprint Added.; DatasheetVersion: Jun-1990; PackageReference: WSO24; Publisher: Altium Limited; PackageDescription: 24-Pin Small Outline Integrated Circuit 1.27 mm Pitch; ComponentLink1Description: Manufacturer Link; ComponentLink1URL: http://www.maxim-ic.com/; ComponentLink2Description: Datasheet; ComponentLink2URL: http://pdfserv.maxim-ic.com/en/ds/MAX151.pdf
footprint WSO24_N (SOIC, 24-Leads, Body 15.4x7.5mm, Pitch 1.27mm, IPC Medium Density)
footprint WSO24_L (SOIC, 24-Leads, Body 15.4x7.5mm, Pitch 1.27mm, IPC High Density)
footprint WSO24_M (SOIC, 24-Leads, Body 15.4x7.5mm, Pitch 1.27mm, IPC Low Density)
3D model WSO24 (24-Pin Small Outline Integrated Circuit 1.27 mm Pitch)
pins: 1 TP, 2 VREF+ (in), 3 AIN (in), 4 REF OUT (out), 5 DBX, 6 DBX, 7 DB0 (hiz), 8 DB1 (hiz), 9 DB2 (hiz), 10 DB3 (hiz), 11 ~{BUSY} (out), 12 DGND (power), 13 VEE (power), 14 ~{CS} (in), 15 ~{RD} (in), 16 DB4 (hiz), 17 DB5 (hiz), 18 DB6 (hiz), 19 DB7 (hiz), 20 DB8 (hiz), 21 DB9 (hiz), 22 VDD (power), 23 AGND (power), 24 VREF- (in)

## MAX151AENG
designator U?
300kHz 10-Bit ADC Converter with Reference and T/H; Published: 16-Jan-2001; LatestRevisionDate: 29-May-2009; LatestRevisionNote: Component Body Added.; DatasheetVersion: Jun-1990; PackageVersion: 1997; PackageReference: NG24A; Publisher: Altium Limited; PackageDescription: DIP, 24-Pin, Row Spacing 7.62 mm, Pitch 2.54 mm; Code_JEDEC: MS-001-AF; ComponentLink1Description: Manufacturer Link; ComponentLink1URL: http://www.maxim-ic.com/; ComponentLink2Description: Datasheet; ComponentLink2URL: http://pdfserv.maxim-ic.com/en/ds/MAX151.pdf
footprint NG24A (DIP, 24-Leads, Row Spacing 7.62mm, Pitch 2.54mm, Body 30.55x6.99mm)
3D model NG24 (DIP, 24-Pin, Row Spacing 7.62 mm, Pitch 2.54 mm)
pins: 1 TP, 2 VREF+ (in), 3 AIN (in), 4 REF OUT (out), 5 DBX, 6 DBX, 7 DB0 (hiz), 8 DB1 (hiz), 9 DB2 (hiz), 10 DB3 (hiz), 11 ~{BUSY} (out), 12 DGND (power), 13 VEE (power), 14 ~{CS} (in), 15 ~{RD} (in), 16 DB4 (hiz), 17 DB5 (hiz), 18 DB6 (hiz), 19 DB7 (hiz), 20 DB8 (hiz), 21 DB9 (hiz), 22 VDD (power), 23 AGND (power), 24 VREF- (in)

## MAX151AEWG
designator U?
300kHz 10-Bit ADC Converter with Reference and T/H; Published: 16-Jan-2001; LatestRevisionDate: 13-Apr-2006; LatestRevisionNote: IPC-7351 Footprint Added.; DatasheetVersion: Jun-1990; PackageReference: WSO24; Publisher: Altium Limited; PackageDescription: 24-Pin Small Outline Integrated Circuit 1.27 mm Pitch; ComponentLink1Description: Manufacturer Link; ComponentLink1URL: http://www.maxim-ic.com/; ComponentLink2Description: Datasheet; ComponentLink2URL: http://pdfserv.maxim-ic.com/en/ds/MAX151.pdf
footprint WSO24_N (SOIC, 24-Leads, Body 15.4x7.5mm, Pitch 1.27mm, IPC Medium Density)
footprint WSO24_L (SOIC, 24-Leads, Body 15.4x7.5mm, Pitch 1.27mm, IPC High Density)
footprint WSO24_M (SOIC, 24-Leads, Body 15.4x7.5mm, Pitch 1.27mm, IPC Low Density)
3D model WSO24 (24-Pin Small Outline Integrated Circuit 1.27 mm Pitch)
pins: 1 TP, 2 VREF+ (in), 3 AIN (in), 4 REF OUT (out), 5 DBX, 6 DBX, 7 DB0 (hiz), 8 DB1 (hiz), 9 DB2 (hiz), 10 DB3 (hiz), 11 ~{BUSY} (out), 12 DGND (power), 13 VEE (power), 14 ~{CS} (in), 15 ~{RD} (in), 16 DB4 (hiz), 17 DB5 (hiz), 18 DB6 (hiz), 19 DB7 (hiz), 20 DB8 (hiz), 21 DB9 (hiz), 22 VDD (power), 23 AGND (power), 24 VREF- (in)

## MAX151AMRG
designator U?
300kHz 10-Bit ADC Converter with Reference and T/H; Published: 16-Jan-2001; LatestRevisionDate: 29-May-2009; LatestRevisionNote: Component Body Added.; DatasheetVersion: Jun-1990; PackageVersion: 1996; PackageReference: RG24; Publisher: Altium Limited; PackageDescription: DIP, 24-Pin, Row Spacing 7.62 mm, Pitch 2.54 mm; Code_JEDEC: MS-001-AF; ComponentLink1Description: Manufacturer Link; ComponentLink1URL: http://www.maxim-ic.com/; ComponentLink2Description: Datasheet; ComponentLink2URL: http://pdfserv.maxim-ic.com/en/ds/MAX151.pdf
footprint RG24 (DIP, 24-Leads, Row Spacing 7.62mm, Pitch 2.54mm, Body 31.88x6.73mm)
3D model NG24 (DIP, 24-Pin, Row Spacing 7.62 mm, Pitch 2.54 mm)
pins: 1 TP, 2 VREF+ (in), 3 AIN (in), 4 REF OUT (out), 5 DBX, 6 DBX, 7 DB0 (hiz), 8 DB1 (hiz), 9 DB2 (hiz), 10 DB3 (hiz), 11 ~{BUSY} (out), 12 DGND (power), 13 VEE (power), 14 ~{CS} (in), 15 ~{RD} (in), 16 DB4 (hiz), 17 DB5 (hiz), 18 DB6 (hiz), 19 DB7 (hiz), 20 DB8 (hiz), 21 DB9 (hiz), 22 VDD (power), 23 AGND (power), 24 VREF- (in)

## MAX151BCNG
designator U?
300kHz 10-Bit ADC Converter with Reference and T/H; Published: 16-Jan-2001; LatestRevisionDate: 29-May-2009; LatestRevisionNote: Component Body Added.; DatasheetVersion: Jun-1990; PackageVersion: 1997; PackageReference: NG24A; Publisher: Altium Limited; PackageDescription: DIP, 24-Pin, Row Spacing 7.62 mm, Pitch 2.54 mm; Code_JEDEC: MS-001-AF; ComponentLink1Description: Manufacturer Link; ComponentLink1URL: http://www.maxim-ic.com/; ComponentLink2Description: Datasheet; ComponentLink2URL: http://pdfserv.maxim-ic.com/en/ds/MAX151.pdf
footprint NG24A (DIP, 24-Leads, Row Spacing 7.62mm, Pitch 2.54mm, Body 30.55x6.99mm)
3D model NG24 (DIP, 24-Pin, Row Spacing 7.62 mm, Pitch 2.54 mm)
pins: 1 TP, 2 VREF+ (in), 3 AIN (in), 4 REF OUT (out), 5 DBX, 6 DBX, 7 DB0 (hiz), 8 DB1 (hiz), 9 DB2 (hiz), 10 DB3 (hiz), 11 ~{BUSY} (out), 12 DGND (power), 13 VEE (power), 14 ~{CS} (in), 15 ~{RD} (in), 16 DB4 (hiz), 17 DB5 (hiz), 18 DB6 (hiz), 19 DB7 (hiz), 20 DB8 (hiz), 21 DB9 (hiz), 22 VDD (power), 23 AGND (power), 24 VREF- (in)

## MAX151BCWG
designator U?
300kHz 10-Bit ADC Converter with Reference and T/H; Published: 16-Jan-2001; LatestRevisionDate: 13-Apr-2006; LatestRevisionNote: IPC-7351 Footprint Added.; DatasheetVersion: Jun-1990; PackageReference: WSO24; Publisher: Altium Limited; PackageDescription: 24-Pin Small Outline Integrated Circuit 1.27 mm Pitch; ComponentLink1Description: Manufacturer Link; ComponentLink1URL: http://www.maxim-ic.com/; ComponentLink2Description: Datasheet; ComponentLink2URL: http://pdfserv.maxim-ic.com/en/ds/MAX151.pdf
footprint WSO24_N (SOIC, 24-Leads, Body 15.4x7.5mm, Pitch 1.27mm, IPC Medium Density)
footprint WSO24_L (SOIC, 24-Leads, Body 15.4x7.5mm, Pitch 1.27mm, IPC High Density)
footprint WSO24_M (SOIC, 24-Leads, Body 15.4x7.5mm, Pitch 1.27mm, IPC Low Density)
3D model WSO24 (24-Pin Small Outline Integrated Circuit 1.27 mm Pitch)
pins: 1 TP, 2 VREF+ (in), 3 AIN (in), 4 REF OUT (out), 5 DBX, 6 DBX, 7 DB0 (hiz), 8 DB1 (hiz), 9 DB2 (hiz), 10 DB3 (hiz), 11 ~{BUSY} (out), 12 DGND (power), 13 VEE (power), 14 ~{CS} (in), 15 ~{RD} (in), 16 DB4 (hiz), 17 DB5 (hiz), 18 DB6 (hiz), 19 DB7 (hiz), 20 DB8 (hiz), 21 DB9 (hiz), 22 VDD (power), 23 AGND (power), 24 VREF- (in)

## MAX151BENG
designator U?
300kHz 10-Bit ADC Converter with Reference and T/H; Published: 16-Jan-2001; LatestRevisionDate: 29-May-2009; LatestRevisionNote: Component Body Added.; DatasheetVersion: Jun-1990; PackageVersion: 1997; PackageReference: NG24A; Publisher: Altium Limited; PackageDescription: DIP, 24-Pin, Row Spacing 7.62 mm, Pitch 2.54 mm; Code_JEDEC: MS-001-AF; ComponentLink1Description: Manufacturer Link; ComponentLink1URL: http://www.maxim-ic.com/; ComponentLink2Description: Datasheet; ComponentLink2URL: http://pdfserv.maxim-ic.com/en/ds/MAX151.pdf
footprint NG24A (DIP, 24-Leads, Row Spacing 7.62mm, Pitch 2.54mm, Body 30.55x6.99mm)
3D model NG24 (DIP, 24-Pin, Row Spacing 7.62 mm, Pitch 2.54 mm)
pins: 1 TP, 2 VREF+ (in), 3 AIN (in), 4 REF OUT (out), 5 DBX, 6 DBX, 7 DB0 (hiz), 8 DB1 (hiz), 9 DB2 (hiz), 10 DB3 (hiz), 11 ~{BUSY} (out), 12 DGND (power), 13 VEE (power), 14 ~{CS} (in), 15 ~{RD} (in), 16 DB4 (hiz), 17 DB5 (hiz), 18 DB6 (hiz), 19 DB7 (hiz), 20 DB8 (hiz), 21 DB9 (hiz), 22 VDD (power), 23 AGND (power), 24 VREF- (in)

## MAX151BEWG
designator U?
300kHz 10-Bit ADC Converter with Reference and T/H; Published: 16-Jan-2001; LatestRevisionDate: 13-Apr-2006; LatestRevisionNote: IPC-7351 Footprint Added.; DatasheetVersion: Jun-1990; PackageReference: WSO24; Publisher: Altium Limited; PackageDescription: 24-Pin Small Outline Integrated Circuit 1.27 mm Pitch; ComponentLink1Description: Manufacturer Link; ComponentLink1URL: http://www.maxim-ic.com/; ComponentLink2Description: Datasheet; ComponentLink2URL: http://pdfserv.maxim-ic.com/en/ds/MAX151.pdf
footprint WSO24_N (SOIC, 24-Leads, Body 15.4x7.5mm, Pitch 1.27mm, IPC Medium Density)
footprint WSO24_L (SOIC, 24-Leads, Body 15.4x7.5mm, Pitch 1.27mm, IPC High Density)
footprint WSO24_M (SOIC, 24-Leads, Body 15.4x7.5mm, Pitch 1.27mm, IPC Low Density)
3D model WSO24 (24-Pin Small Outline Integrated Circuit 1.27 mm Pitch)
pins: 1 TP, 2 VREF+ (in), 3 AIN (in), 4 REF OUT (out), 5 DBX, 6 DBX, 7 DB0 (hiz), 8 DB1 (hiz), 9 DB2 (hiz), 10 DB3 (hiz), 11 ~{BUSY} (out), 12 DGND (power), 13 VEE (power), 14 ~{CS} (in), 15 ~{RD} (in), 16 DB4 (hiz), 17 DB5 (hiz), 18 DB6 (hiz), 19 DB7 (hiz), 20 DB8 (hiz), 21 DB9 (hiz), 22 VDD (power), 23 AGND (power), 24 VREF- (in)

## MAX151BMRG
designator U?
300kHz 10-Bit ADC Converter with Reference and T/H; Published: 16-Jan-2001; LatestRevisionDate: 29-May-2009; LatestRevisionNote: Component Body Added.; DatasheetVersion: Jun-1990; PackageVersion: 1996; PackageReference: RG24; Publisher: Altium Limited; PackageDescription: DIP, 24-Pin, Row Spacing 7.62 mm, Pitch 2.54 mm; Code_JEDEC: MS-001-AF; ComponentLink1Description: Manufacturer Link; ComponentLink1URL: http://www.maxim-ic.com/; ComponentLink2Description: Datasheet; ComponentLink2URL: http://pdfserv.maxim-ic.com/en/ds/MAX151.pdf
footprint RG24 (DIP, 24-Leads, Row Spacing 7.62mm, Pitch 2.54mm, Body 31.88x6.73mm)
3D model NG24 (DIP, 24-Pin, Row Spacing 7.62 mm, Pitch 2.54 mm)
pins: 1 TP, 2 VREF+ (in), 3 AIN (in), 4 REF OUT (out), 5 DBX, 6 DBX, 7 DB0 (hiz), 8 DB1 (hiz), 9 DB2 (hiz), 10 DB3 (hiz), 11 ~{BUSY} (out), 12 DGND (power), 13 VEE (power), 14 ~{CS} (in), 15 ~{RD} (in), 16 DB4 (hiz), 17 DB5 (hiz), 18 DB6 (hiz), 19 DB7 (hiz), 20 DB8 (hiz), 21 DB9 (hiz), 22 VDD (power), 23 AGND (power), 24 VREF- (in)

## MAX152CAP
designator U?
3V+, 8-Bit ADC with 1µA Power-Down; Published: 16-Jan-2001; LatestRevisionDate: 13-Apr-2006; LatestRevisionNote: IPC-7351 Footprint Added.; DatasheetVersion: Dec-1993; PackageReference: PSOP20; Publisher: Altium Limited; PackageDescription: 20-Pin Small Outline Integrated Circuit 1.27 mm Pitch; Code_JEDEC: MS-013-AC; Code_IPC: SOIC127P1030-20; ComponentLink1Description: Manufacturer Link; ComponentLink1URL: http://www.maxim-ic.com/; ComponentLink2Description: Datasheet; ComponentLink2URL: http://pdfserv.maxim-ic.com/en/ds/MAX152.pdf
footprint PSOP20_N (SOIC, 20-Leads, Body 12.8x7.5mm, Pitch 1.27mm, IPC Medium Density)
footprint PSOP20_L (SOIC, 20-Leads, Body 12.8x7.5mm, Pitch 1.27mm, IPC High Density)
footprint PSOP20_M (SOIC, 20-Leads, Body 12.8x7.5mm, Pitch 1.27mm, IPC Low Density)
3D model WSO20 (20-Pin Small Outline Integrated Circuit 1.27 mm Pitch)
pins: 1 VIN (in), 2 D0(LSB) (hiz), 3 D1 (hiz), 4 D2 (hiz), 5 D3 (hiz), 6 ~{WR}/RDY (io), 7 MODE (in), 8 ~{RD} (in), 9 ~{INT} (out), 10 GND (power), 11 VREF- (in), 12 VREF+ (in), 13 ~{CS} (in), 14 D4 (hiz), 15 D5 (hiz), 16 D6 (hiz), 17 D7(MSB) (hiz), 18 ~{PWRDN} (in), 19 VEE (power), 20 VDD (power)

## MAX152CPP
designator U?
3V+, 8-Bit ADC with 1µA Power-Down; Published: 16-Jan-2001; LatestRevisionDate: 29-May-2009; LatestRevisionNote: Component Body Added.; DatasheetVersion: Dec-1993; PackageVersion: RevB, 21-0043; PackageReference: PP20; Publisher: Altium Limited; PackageDescription: DIP, 20-Pin, Row Spacing 7.62 mm, Pitch 2.54 mm; Code_JEDEC: MS-001-AE; ComponentLink1Description: Manufacturer Link; ComponentLink1URL: http://www.maxim-ic.com/; ComponentLink2Description: Datasheet; ComponentLink2URL: http://pdfserv.maxim-ic.com/en/ds/MAX152.pdf
footprint PP20 (DIP, 20-Leads, Row Spacing 7.62mm, Pitch 2.54mm, Body 26.16x7.24mm)
3D model PP20 (DIP, 20-Pin, Row Spacing 7.62 mm, Pitch 2.54 mm)
pins: 1 VIN (in), 2 D0(LSB) (hiz), 3 D1 (hiz), 4 D2 (hiz), 5 D3 (hiz), 6 ~{WR}/RDY (io), 7 MODE (in), 8 ~{RD} (in), 9 ~{INT} (out), 10 GND (power), 11 VREF- (in), 12 VREF+ (in), 13 ~{CS} (in), 14 D4 (hiz), 15 D5 (hiz), 16 D6 (hiz), 17 D7(MSB) (hiz), 18 ~{PWRDN} (in), 19 VEE (power), 20 VDD (power)

## MAX152CWP
designator U?
3V+, 8-Bit ADC with 1µA Power-Down; Published: 16-Jan-2001; LatestRevisionDate: 13-Apr-2006; LatestRevisionNote: IPC-7351 Footprint Added.; DatasheetVersion: Dec-1993; PackageReference: WSO20; Publisher: Altium Limited; PackageDescription: 20-Pin Small Outline Integrated Circuit 1.27 mm Pitch; Code_JEDEC: MS-013-AC; Code_IPC: SOIC127P1030-20; ComponentLink1Description: Manufacturer Link; ComponentLink1URL: http://www.maxim-ic.com/; ComponentLink2Description: Datasheet; ComponentLink2URL: http://pdfserv.maxim-ic.com/en/ds/MAX152.pdf
footprint WSO20_N (SOIC, 20-Leads, Body 12.8x7.5mm, Pitch 1.27mm, IPC Medium Density)
footprint WSO20_L (SOIC, 20-Leads, Body 12.8x7.5mm, Pitch 1.27mm, IPC High Density)
footprint WSO20_M (SOIC, 20-Leads, Body 12.8x7.5mm, Pitch 1.27mm, IPC Low Density)
3D model WSO20 (20-Pin Small Outline Integrated Circuit 1.27 mm Pitch)
pins: 1 VIN (in), 2 D0(LSB) (hiz), 3 D1 (hiz), 4 D2 (hiz), 5 D3 (hiz), 6 ~{WR}/RDY (io), 7 MODE (in), 8 ~{RD} (in), 9 ~{INT} (out), 10 GND (power), 11 VREF- (in), 12 VREF+ (in), 13 ~{CS} (in), 14 D4 (hiz), 15 D5 (hiz), 16 D6 (hiz), 17 D7(MSB) (hiz), 18 ~{PWRDN} (in), 19 VEE (power), 20 VDD (power)

## MAX152EAP
designator U?
3V+, 8-Bit ADC with 1µA Power-Down; Published: 16-Jan-2001; LatestRevisionDate: 13-Apr-2006; LatestRevisionNote: IPC-7351 Footprint Added.; DatasheetVersion: Dec-1993; PackageReference: PSOP20; Publisher: Altium Limited; PackageDescription: 20-Pin Small Outline Integrated Circuit 1.27 mm Pitch; Code_JEDEC: MS-013-AC; Code_IPC: SOIC127P1030-20; ComponentLink1Description: Manufacturer Link; ComponentLink1URL: http://www.maxim-ic.com/; ComponentLink2Description: Datasheet; ComponentLink2URL: http://pdfserv.maxim-ic.com/en/ds/MAX152.pdf
footprint PSOP20_N (SOIC, 20-Leads, Body 12.8x7.5mm, Pitch 1.27mm, IPC Medium Density)
footprint PSOP20_L (SOIC, 20-Leads, Body 12.8x7.5mm, Pitch 1.27mm, IPC High Density)
footprint PSOP20_M (SOIC, 20-Leads, Body 12.8x7.5mm, Pitch 1.27mm, IPC Low Density)
3D model WSO20 (20-Pin Small Outline Integrated Circuit 1.27 mm Pitch)
pins: 1 VIN (in), 2 D0(LSB) (hiz), 3 D1 (hiz), 4 D2 (hiz), 5 D3 (hiz), 6 ~{WR}/RDY (io), 7 MODE (in), 8 ~{RD} (in), 9 ~{INT} (out), 10 GND (power), 11 VREF- (in), 12 VREF+ (in), 13 ~{CS} (in), 14 D4 (hiz), 15 D5 (hiz), 16 D6 (hiz), 17 D7(MSB) (hiz), 18 ~{PWRDN} (in), 19 VEE (power), 20 VDD (power)

## MAX152EPP
designator U?
3V+, 8-Bit ADC with 1µA Power-Down; Published: 16-Jan-2001; LatestRevisionDate: 29-May-2009; LatestRevisionNote: Component Body Added.; DatasheetVersion: Dec-1993; PackageVersion: RevB, 21-0043; PackageReference: PP20; Publisher: Altium Limited; PackageDescription: DIP, 20-Pin, Row Spacing 7.62 mm, Pitch 2.54 mm; Code_JEDEC: MS-001-AE; ComponentLink1Description: Manufacturer Link; ComponentLink1URL: http://www.maxim-ic.com/; ComponentLink2Description: Datasheet; ComponentLink2URL: http://pdfserv.maxim-ic.com/en/ds/MAX152.pdf
footprint PP20 (DIP, 20-Leads, Row Spacing 7.62mm, Pitch 2.54mm, Body 26.16x7.24mm)
3D model PP20 (DIP, 20-Pin, Row Spacing 7.62 mm, Pitch 2.54 mm)
pins: 1 VIN (in), 2 D0(LSB) (hiz), 3 D1 (hiz), 4 D2 (hiz), 5 D3 (hiz), 6 ~{WR}/RDY (io), 7 MODE (in), 8 ~{RD} (in), 9 ~{INT} (out), 10 GND (power), 11 VREF- (in), 12 VREF+ (in), 13 ~{CS} (in), 14 D4 (hiz), 15 D5 (hiz), 16 D6 (hiz), 17 D7(MSB) (hiz), 18 ~{PWRDN} (in), 19 VEE (power), 20 VDD (power)

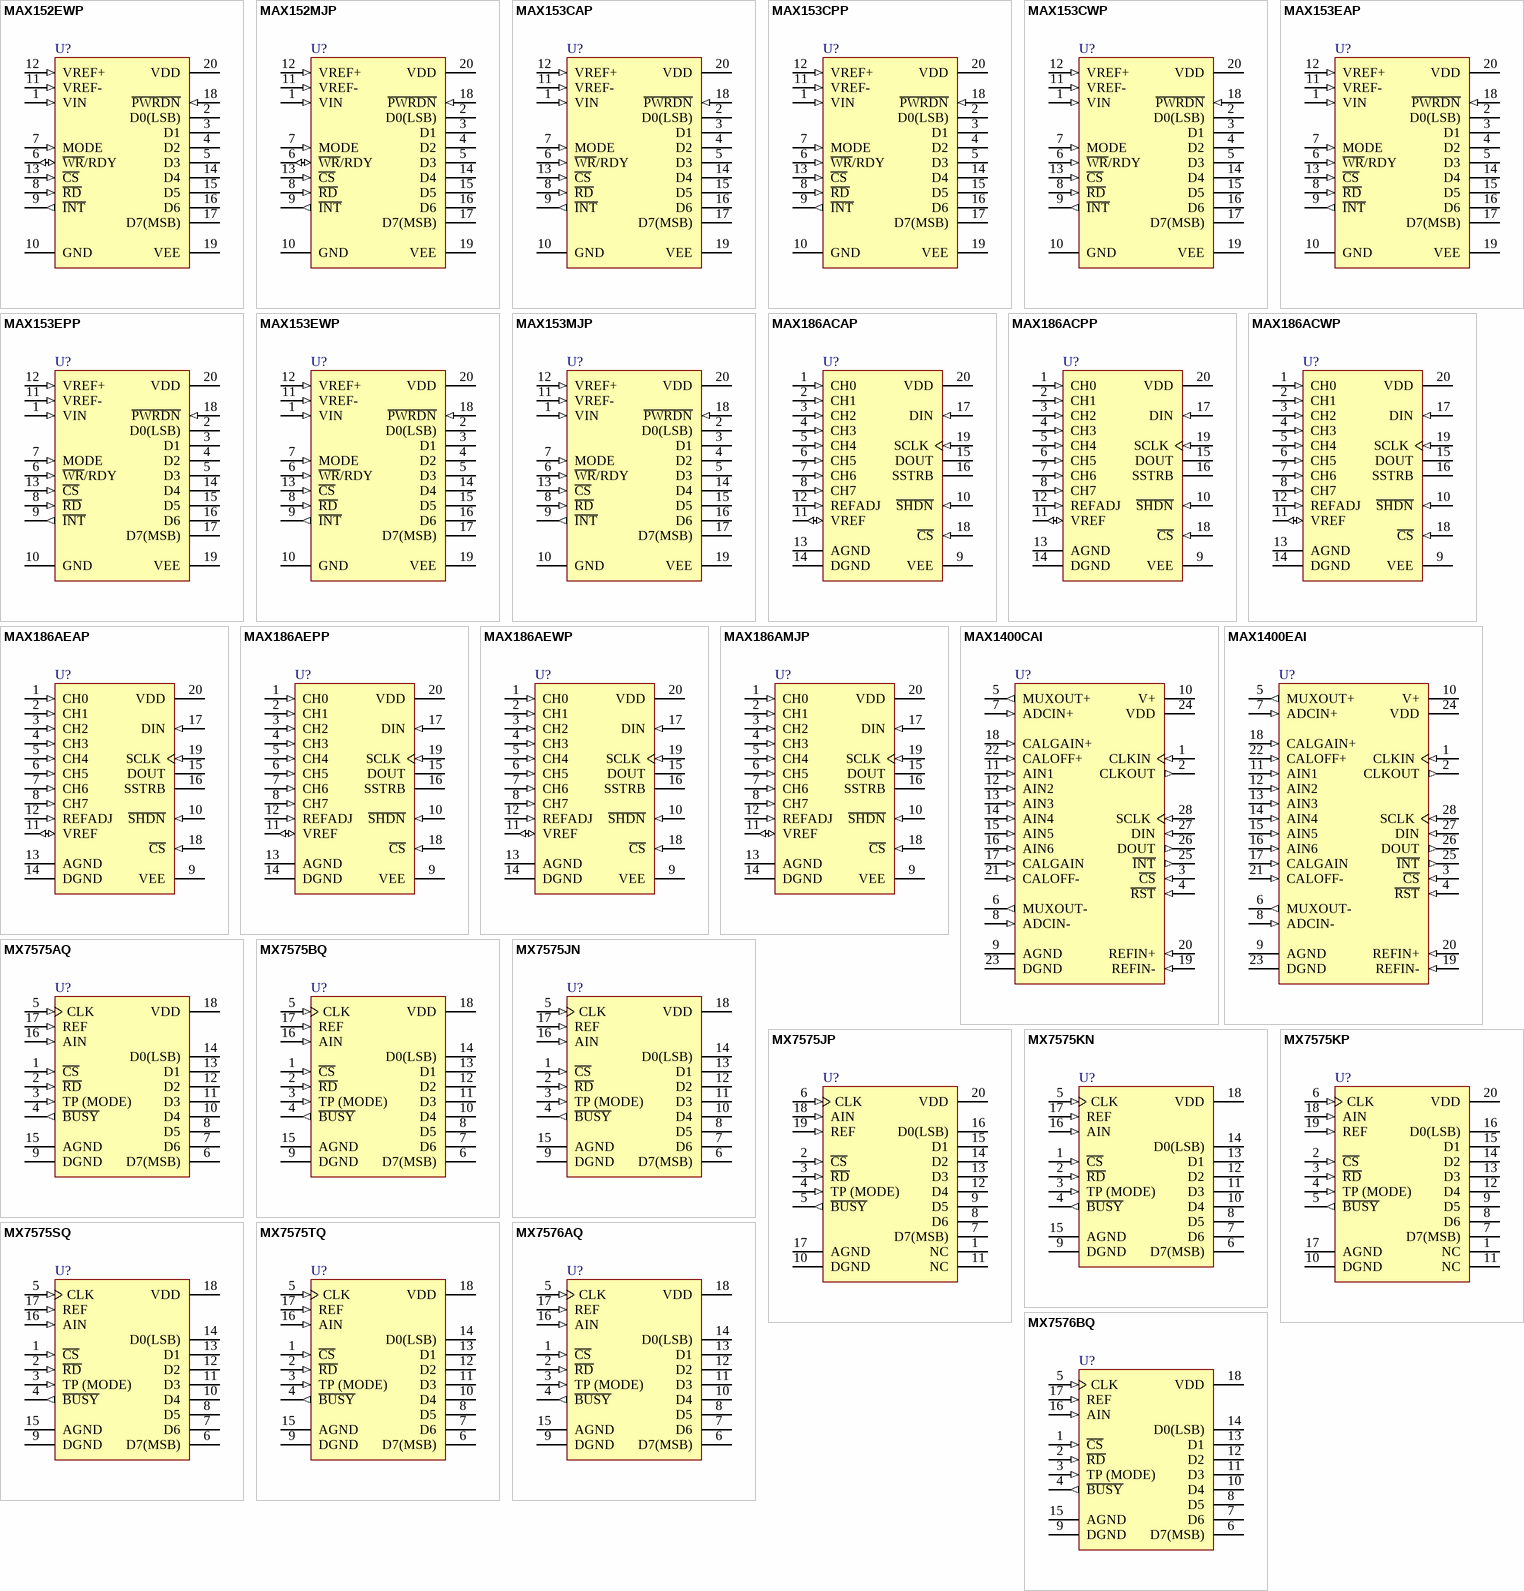
[diagram p2: symbols MAX152EWP to MX7576BQ]

## MAX152EWP
designator U?
3V+, 8-Bit ADC with 1µA Power-Down; Published: 16-Jan-2001; LatestRevisionDate: 13-Apr-2006; LatestRevisionNote: IPC-7351 Footprint Added.; DatasheetVersion: Dec-1993; PackageReference: WSO20; Publisher: Altium Limited; PackageDescription: 20-Pin Small Outline Integrated Circuit 1.27 mm Pitch; Code_JEDEC: MS-013-AC; Code_IPC: SOIC127P1030-20; ComponentLink1Description: Manufacturer Link; ComponentLink1URL: http://www.maxim-ic.com/; ComponentLink2Description: Datasheet; ComponentLink2URL: http://pdfserv.maxim-ic.com/en/ds/MAX152.pdf
footprint WSO20_N (SOIC, 20-Leads, Body 12.8x7.5mm, Pitch 1.27mm, IPC Medium Density)
footprint WSO20_L (SOIC, 20-Leads, Body 12.8x7.5mm, Pitch 1.27mm, IPC High Density)
footprint WSO20_M (SOIC, 20-Leads, Body 12.8x7.5mm, Pitch 1.27mm, IPC Low Density)
3D model WSO20 (20-Pin Small Outline Integrated Circuit 1.27 mm Pitch)
pins: 1 VIN (in), 2 D0(LSB) (hiz), 3 D1 (hiz), 4 D2 (hiz), 5 D3 (hiz), 6 ~{WR}/RDY (io), 7 MODE (in), 8 ~{RD} (in), 9 ~{INT} (out), 10 GND (power), 11 VREF- (in), 12 VREF+ (in), 13 ~{CS} (in), 14 D4 (hiz), 15 D5 (hiz), 16 D6 (hiz), 17 D7(MSB) (hiz), 18 ~{PWRDN} (in), 19 VEE (power), 20 VDD (power)

## MAX152MJP
designator U?
3V+, 8-Bit ADC with 1µA Power-Down; Published: 16-Jan-2001; LatestRevisionDate: 29-May-2009; LatestRevisionNote: Component Body Added.; DatasheetVersion: Dec-1993; PackageVersion: 1996; PackageReference: JP20; Publisher: Altium Limited; PackageDescription: DIP, 20-Pin, Row Spacing 7.62 mm, Pitch 2.54 mm; Code_JEDEC: MS-001-AD; ComponentLink1Description: Manufacturer Link; ComponentLink1URL: http://www.maxim-ic.com/; ComponentLink2Description: Datasheet; ComponentLink2URL: http://pdfserv.maxim-ic.com/en/ds/MAX152.pdf
footprint JP20 (DIP, 20-Leads, Row Spacing 7.62mm, Pitch 2.54mm, Body 25.91x6.73mm)
3D model PP20 (DIP, 20-Pin, Row Spacing 7.62 mm, Pitch 2.54 mm)
pins: 1 VIN (in), 2 D0(LSB) (hiz), 3 D1 (hiz), 4 D2 (hiz), 5 D3 (hiz), 6 ~{WR}/RDY (io), 7 MODE (in), 8 ~{RD} (in), 9 ~{INT} (out), 10 GND (power), 11 VREF- (in), 12 VREF+ (in), 13 ~{CS} (in), 14 D4 (hiz), 15 D5 (hiz), 16 D6 (hiz), 17 D7(MSB) (hiz), 18 ~{PWRDN} (in), 19 VEE (power), 20 VDD (power)